# Altium footprint library PcbLib1.PcbLib: 2 footprints
Each footprint in its own frame and in the unit in brackets; x right, y up, seen from the top. Pads: shape width x height; smd on the part's side, far side on the other; paste and mask are expansions set on the pad; w line width, h text height; cw(c..) or ccw(c..) is an arc to the next point about the centre after c.
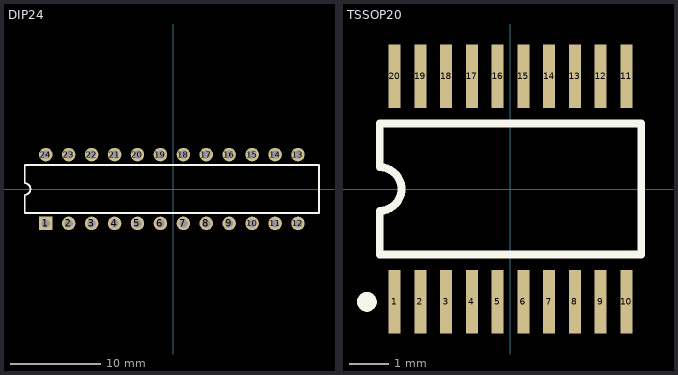
[diagram p0: the footprints below, top view; thin cyan lines are the x and y axes]

## DIP24 [mm]
pads (24):
  rect 1.5x1.5 hole 0.9: 1(-14.097,-3.81)
  round 1.5 hole 0.9: 2(-11.557,-3.81) 3(-9.017,-3.81) 4(-6.477,-3.81) 5(-3.937,-3.81) 6(-1.397,-3.81) 7(1.143,-3.81) 8(3.683,-3.81) 9(6.223,-3.81) 10(8.763,-3.81) 11(11.303,-3.81) 12(13.843,-3.81) 13(13.843,3.81) 14(11.303,3.81) 15(8.763,3.81) 16(6.223,3.81) 17(3.683,3.81) 18(1.143,3.81) 19(-1.397,3.81) 20(-3.937,3.81) 21(-6.477,3.81) 22(-9.017,3.81) 23(-11.557,3.81) 24(-14.097,3.81)
Top Overlay:
  lines w0.2: -16.427,-2.65 16.173,-2.65 16.173,2.65 -16.427,2.65 -16.427,0.635 cw(c-16.427,0) -16.427,-0.635 -16.427,-2.65

## TSSOP20 [mm] "Shrink Small Outline; 20 Leads; Body Width 4.4 mm; Pitch 0.65 mm"
height 1.1
pads (20):
  rect 0.3x1.6 smd: 1(-2.925,-2.85) 2(-2.275,-2.85) 3(-1.625,-2.85) 4(-0.975,-2.85) 5(-0.325,-2.85) 6(0.325,-2.85) 7(0.975,-2.85) 8(1.625,-2.85) 9(2.275,-2.85) 10(2.925,-2.85) 11(2.925,2.85) 12(2.275,2.85) 13(1.625,2.85) 14(0.975,2.85) 15(0.325,2.85) 16(-0.325,2.85) 17(-0.975,2.85) 18(-1.625,2.85) 19(-2.275,2.85) 20(-2.925,2.85)
Top Overlay:
  circle w0.25: c-3.625,-2.85 r0.125
  lines w0.2: -3.3,-1.65 -3.3,-0.55 ccw(c-3.3,0) -3.3,0.55 -3.3,1.65 3.302,1.65 3.302,-1.65 -3.3,-1.65